# Altium schematic symbol library FX2LP.SchLib: 4 symbols
Pins are listed as number, name and electrical type; pins without a type are passive.

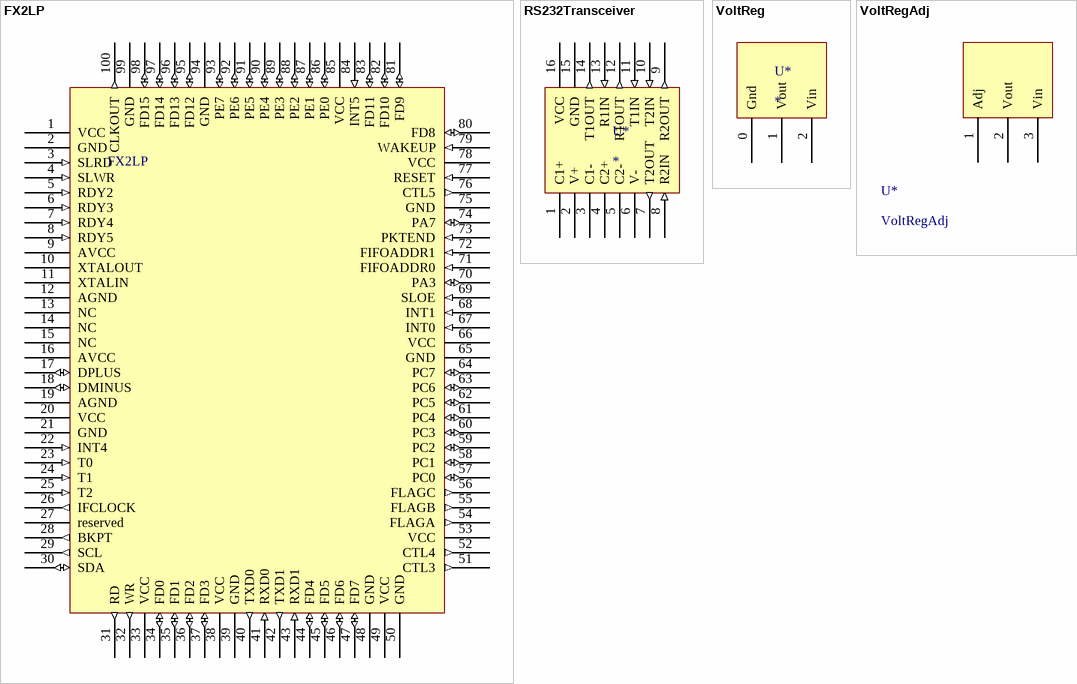
[diagram p0: symbols FX2LP to VoltRegAdj]

## FX2LP
designator FX2LP  (value not drawn)
Cypress FX2LP 100 pin
footprint R-QFP14x20-G100/X.4N (QFP; 100 Leads; Body 14 x 20 mm; Pitch 0.65 mm)
pins: 1 VCC (power), 2 GND (power), 3 SLRD (in), 4 SLWR (in), 5 RDY2 (in), 6 RDY3 (in), 7 RDY4 (in), 8 RDY5 (in), 9 AVCC, 10 XTALOUT, 11 XTALIN, 12 AGND (power), 13 NC, 14 NC, 15 NC, 16 AVCC (power), 17 DPLUS (io), 18 DMINUS (io), 19 AGND (power), 20 VCC (power), 21 GND (power), 22 INT4 (in), 23 T0 (in), 24 T1 (in), 25 T2 (in), 26 IFCLOCK (out), 27 reserved, 28 BKPT (out), 29 SCL (out), 30 SDA (io), 31 RD (out), 32 WR (out), 33 VCC (power), 34 FD0 (io), 35 FD1 (io), 36 FD2 (io), 37 FD3 (io), 38 VCC (power), 39 GND (power), 40 TXD0 (out), 41 RXD0 (in), 42 TXD1 (out), 43 RXD1 (in), 44 FD4 (io), 45 FD5 (io), 46 FD6 (io), 47 FD7 (io), 48 GND (power), 49 VCC (power), 50 GND (power), 51 CTL3 (out), 52 CTL4 (out), 53 VCC (power), 54 FLAGA (out), 55 FLAGB (out), 56 FLAGC (out), 57 PC0 (io), 58 PC1 (io), 59 PC2 (io), 60 PC3 (io), 61 PC4 (io), 62 PC5 (io), 63 PC6 (io), 64 PC7 (io), 65 GND (power), 66 VCC (power), 67 INT0 (in), 68 INT1 (in), 69 SLOE (in), 70 PA3 (io), 71 FIFOADDR0 (in), 72 FIFOADDR1 (in), 73 PKTEND (in), 74 PA7 (io), 75 GND (power), 76 CTL5 (out), 77 RESET (in), 78 VCC (power), 79 WAKEUP (in), 80 FD8 (io), 81 FD9 (io), 82 FD10 (io), 83 FD11 (io), 84 INT5 (in), 85 VCC (power), 86 PE0 (io), 87 PE1 (io), 88 PE2 (io), 89 PE3 (io), 90 PE4 (io), 91 PE5 (io), 92 PE6 (io), 93 PE7 (io), 94 GND (power), 95 FD12 (io), 96 FD13 (io), 97 FD14 (io), 98 FD15 (io), 99 GND (power), 100 CLKOUT (out)

## RS232Transceiver
designator U*
Analog Devices RS232 Transceiver
footprint TSSO5x6-G16 (Shrink Small Outline; 16 Leads; Body Width 4.4 mm; Pitch 0.65 mm)
pins: 1 C1+ (power), 2 V+ (power), 3 C1- (power), 4 C2+ (power), 5 C2- (power), 6 V- (power), 7 T2OUT (out), 8 R2IN (in), 9 R2OUT (out), 10 T2IN (in), 11 T1IN (in), 12 R1OUT (out), 13 R1IN (in), 14 T1OUT (out), 15 GND (power), 16 VCC (power)

## VoltReg
designator U*
5 to 3.3 volts regulator
footprint TO-220; pin to pad 0>1 1>2 2>3
pins: 0 Gnd (power), 1 Vout (power), 2 Vin (power)

## VoltRegAdj
designator U*
footprint TO-220
pins: 1 Adj (power), 2 Vout (power), 3 Vin (power)